# EAGLE library part PP140-50CBS2.00X5.50 (library NewSDR)
LeaderTech 2.00" x 5.50" shield
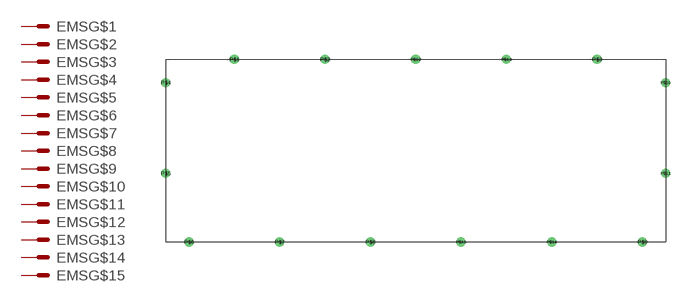
[diagram p115: symbol with the pads of PP140-50CBS2.00X5.50; footprint PP140-50CBS2.00X5.50]

Designator prefix EMS; gates G$1=MS G$2=MS G$3=MS G$4=MS G$5=MS G$6=MS G$7=MS G$8=MS G$9=MS G$10=MS G$11=MS G$12=MS G$13=MS G$14=MS G$15=MS

## PP140-50CBS2.00X5.50  [PP140-50CBS2.00X5.50]
P$1  G$1:MS  pas
P$2  G$2:MS  pas
P$3  G$3:MS  pas
P$4  G$4:MS  pas
P$5  G$5:MS  pas
P$6  G$6:MS  pas
P$7  G$7:MS  pas
P$8  G$8:MS  pas
P$9  G$9:MS  pas
P$10  G$10:MS  pas
P$11  G$11:MS  pas
P$12  G$12:MS  pas
P$13  G$13:MS  pas
P$14  G$14:MS  pas
P$15  G$15:MS  pas

## Footprint PP140-50CBS2.00X5.50 (pad centres in mm)
drill 1.27 pad 2.54: P$1 19.202,0; P$2 44.602,0; P$3 120.802,0; P$4 0,-6.502; P$5 0,-31.902; P$6 6.502,-51.105; P$7 31.902,-51.105; P$8 57.302,-51.105; P$9 133.502,-51.105; P$10 140.005,-6.502; P$11 140.005,-31.902; P$12 70.002,0; P$13 95.402,0; P$14 108.102,-51.105; P$15 82.702,-51.105